# EAGLE library part UART_6 (library HMD_Library)
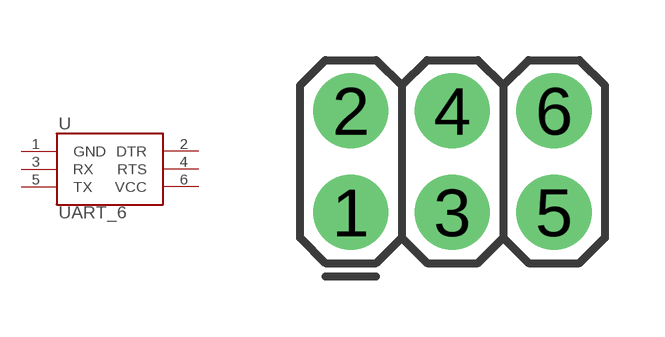
[diagram p3: symbol with the pads of 2X3; footprint 2X3]

Designator prefix -

## UART_6  [2X3]
1  GND  pwr
2  DTR
3  RX
4  RTS
5  TX
6  VCC  pwr

## Footprint 2X3 (pad centres in mm)
Plated Through Hole - 2x3 Specifications: Pin count:6 Pin pitch:0.1" Example device(s): CONN_03x2
drill 1.016 pad 1.88: 1 0,0; 2 0,2.54; 3 2.54,0; 4 2.54,2.54; 5 5.08,0; 6 5.08,2.54